# Altium schematic symbol library WE-PBF.SchLib: 8 symbols
Pins are listed as number, name and electrical type; pins without a type are passive.

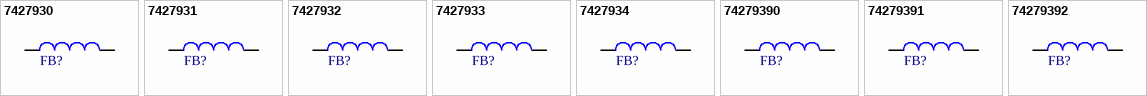
[diagram p0: symbols 7427930 to 74279392]

## 7427930
designator FB?, comment 42Ohm  (value not drawn)
WE-PBF Flat Wire High Current SMT Ferrite Bead, size 4030, 42Ohm, 16A; Manufacturer Part Number: 7427930; Manufacturer: Wurth Elektronik; Case/Size Code: 4030; DC Resistance Max: 0.6mOhm; Impedance @25MHz: 28Ohm; Type: Not glued; Category: Ferrites for PCB Assembly; Match Code: WE-PBF; ComponentLink1Description: Website Link; ComponentLink1URL: https://www.we-online.com/redexpert/article/7427930?ad; ComponentLink2Description: Datasheet Link; ComponentLink2URL: https://www.we-online.com/redexpert/spec/7427930?ad; Mount: Surface Mount; Operating Temperature Max: 125°C; Operating Temperature Min: -55°C; Packaging: Tape and Reel; Length: 5mm; Width: 3mm; Height: 3.1mm; Impedance @100MHz: 42Ohm; Rated Current: 16A
footprint WE-PBF_4030_L5W3H3.1
simulation model 4030_7427930_42ohm
pins: 1, 2

## 7427931
designator FB?, comment 91Ohm  (value not drawn)
WE-PBF Flat Wire High Current SMT Ferrite Bead, size 8530, 91Ohm, 17A; Manufacturer Part Number: 7427931; Manufacturer: Wurth Elektronik; Case/Size Code: 8530; DC Resistance Max: 0.9mOhm; Impedance @25MHz: 58Ohm; Type: Not glued; Category: Ferrites for PCB Assembly; Match Code: WE-PBF; ComponentLink1Description: Website Link; ComponentLink1URL: https://www.we-online.com/redexpert/article/7427931?ad; ComponentLink2Description: Datasheet Link; ComponentLink2URL: https://www.we-online.com/redexpert/spec/7427931?ad; Mount: Surface Mount; Operating Temperature Max: 125°C; Operating Temperature Min: -55°C; Packaging: Tape and Reel; Length: 9.5mm; Width: 3mm; Height: 3.1mm; Impedance @100MHz: 91Ohm; Rated Current: 17A
footprint WE-PBF_8530_L9.5W3H3.1
simulation model 8530_7427931_91ohm
pins: 1, 2

## 7427932
designator FB?, comment 98Ohm  (value not drawn)
WE-PBF Flat Wire High Current SMT Ferrite Bead, size 7847, 98Ohm, 18A; Manufacturer Part Number: 7427932; Manufacturer: Wurth Elektronik; Case/Size Code: 7847; DC Resistance Max: 0.9mOhm; Impedance @25MHz: 65Ohm; Type: Not glued; Category: Ferrites for PCB Assembly; Match Code: WE-PBF; ComponentLink1Description: Website Link; ComponentLink1URL: https://www.we-online.com/redexpert/article/7427932?ad; ComponentLink2Description: Datasheet Link; ComponentLink2URL: https://www.we-online.com/redexpert/spec/7427932?ad; Mount: Surface Mount; Operating Temperature Max: 125°C; Operating Temperature Min: -55°C; Packaging: Tape and Reel; Length: 8.8mm; Width: 4.75mm; Height: 3.55mm; Impedance @100MHz: 98Ohm; Rated Current: 18A
footprint WE-PBF_7847_L8.8W4.75H3.55
simulation model 7847_7427932_98ohm
pins: 1, 2

## 7427933
designator FB?, comment 39Ohm  (value not drawn)
WE-PBF Flat Wire High Current SMT Ferrite Bead, size 3029, 39Ohm, 14A; Manufacturer Part Number: 7427933; Manufacturer: Wurth Elektronik; Case/Size Code: 3029; DC Resistance Max: 0.6mOhm; Impedance @25MHz: 23Ohm; Type: Not glued; Category: Ferrites for PCB Assembly; Match Code: WE-PBF; ComponentLink1Description: Website Link; ComponentLink1URL: https://www.we-online.com/redexpert/article/7427933?ad; ComponentLink2Description: Datasheet Link; ComponentLink2URL: https://www.we-online.com/redexpert/spec/7427933?ad; Mount: Surface Mount; Operating Temperature Max: 125°C; Operating Temperature Min: -55°C; Packaging: Tape and Reel; Length: 3.1mm; Width: 2.9mm; Height: 2.41mm; Impedance @100MHz: 39Ohm; Rated Current: 14A
footprint WE-PBF_3029_L3.1W2.9H2.41
simulation model 3029_7427933_39ohm
pins: 1, 2

## 7427934
designator FB?, comment 42Ohm  (value not drawn)
WE-PBF Flat Wire High Current SMT Ferrite Bead, size 4030, 42Ohm, 15A; Manufacturer Part Number: 7427934; Manufacturer: Wurth Elektronik; Case/Size Code: 4030; DC Resistance Max: 0.6mOhm; Impedance @25MHz: 28Ohm; Type: Not glued; Category: Ferrites for PCB Assembly; Match Code: WE-PBF; ComponentLink1Description: Website Link; ComponentLink1URL: https://www.we-online.com/redexpert/article/7427934?ad; ComponentLink2Description: Datasheet Link; ComponentLink2URL: https://www.we-online.com/redexpert/spec/7427934?ad; Mount: Surface Mount; Operating Temperature Max: 125°C; Operating Temperature Min: -55°C; Packaging: Tape and Reel; Length: 4.9mm; Width: 3mm; Height: 2.5mm; Impedance @100MHz: 42Ohm; Rated Current: 15A
footprint WE-PBF_4030_L4.9W3H2.5
simulation model 4030_7427934_42ohm
pins: 1, 2

## 74279390
designator FB?, comment 42Ohm  (value not drawn)
WE-PBF Flat Wire High Current SMT Ferrite Bead, size 4030, 42Ohm, 16A; Manufacturer Part Number: 74279390; Manufacturer: Wurth Elektronik; Case/Size Code: 4030; DC Resistance Max: 0.6mOhm; Impedance @25MHz: 28Ohm; Type: Glued; Category: Ferrites for PCB Assembly; Match Code: WE-PBF; ComponentLink1Description: Website Link; ComponentLink1URL: https://www.we-online.com/redexpert/article/74279390?ad; ComponentLink2Description: Datasheet Link; ComponentLink2URL: https://www.we-online.com/redexpert/spec/74279390?ad; Mount: Surface Mount; Operating Temperature Max: 125°C; Operating Temperature Min: -55°C; Packaging: Tape and Reel; Length: 5mm; Width: 3mm; Height: 3.1mm; Impedance @100MHz: 42Ohm; Rated Current: 16A
footprint WE-PBF_4030_L5W3H3.1
simulation model 4030_74279390_42ohm
pins: 1, 2

## 74279391
designator FB?, comment 91Ohm  (value not drawn)
WE-PBF Flat Wire High Current SMT Ferrite Bead, size 8530, 91Ohm, 17A; Manufacturer Part Number: 74279391; Manufacturer: Wurth Elektronik; Case/Size Code: 8530; DC Resistance Max: 0.9mOhm; Impedance @25MHz: 58Ohm; Type: Glued; Category: Ferrites for PCB Assembly; Match Code: WE-PBF; ComponentLink1Description: Website Link; ComponentLink1URL: https://www.we-online.com/redexpert/article/74279391?ad; ComponentLink2Description: Datasheet Link; ComponentLink2URL: https://www.we-online.com/redexpert/spec/74279391?ad; Mount: Surface Mount; Operating Temperature Max: 125°C; Operating Temperature Min: -55°C; Packaging: Tape and Reel; Length: 9.5mm; Width: 3mm; Height: 3.1mm; Impedance @100MHz: 91Ohm; Rated Current: 17A
footprint WE-PBF_8530_L9.5W3H3.1
simulation model 8530_74279391_91ohm
pins: 1, 2

## 74279392
designator FB?, comment 98Ohm  (value not drawn)
WE-PBF Flat Wire High Current SMT Ferrite Bead, size 7847, 98Ohm, 18A; Manufacturer Part Number: 74279392; Manufacturer: Wurth Elektronik; Case/Size Code: 7847; DC Resistance Max: 0.9mOhm; Impedance @25MHz: 65Ohm; Type: Glued; Category: Ferrites for PCB Assembly; Match Code: WE-PBF; ComponentLink1Description: Website Link; ComponentLink1URL: https://www.we-online.com/redexpert/article/74279392?ad; ComponentLink2Description: Datasheet Link; ComponentLink2URL: https://www.we-online.com/redexpert/spec/74279392?ad; Mount: Surface Mount; Operating Temperature Max: 125°C; Operating Temperature Min: -55°C; Packaging: Tape and Reel; Length: 8.8mm; Width: 4.75mm; Height: 3.55mm; Impedance @100MHz: 98Ohm; Rated Current: 18A
footprint WE-PBF_7847_L8.8W4.75H3.55
simulation model 7847_74279392_98ohm
pins: 1, 2